# Altium footprint library PcbLib1.PcbLib: 4 footprints
Each footprint in its own frame and in the unit in brackets; x right, y up, seen from the top. Pads: shape width x height; smd on the part's side, far side on the other; paste and mask are expansions set on the pad; w line width, h text height; cw(c..) or ccw(c..) is an arc to the next point about the centre after c.
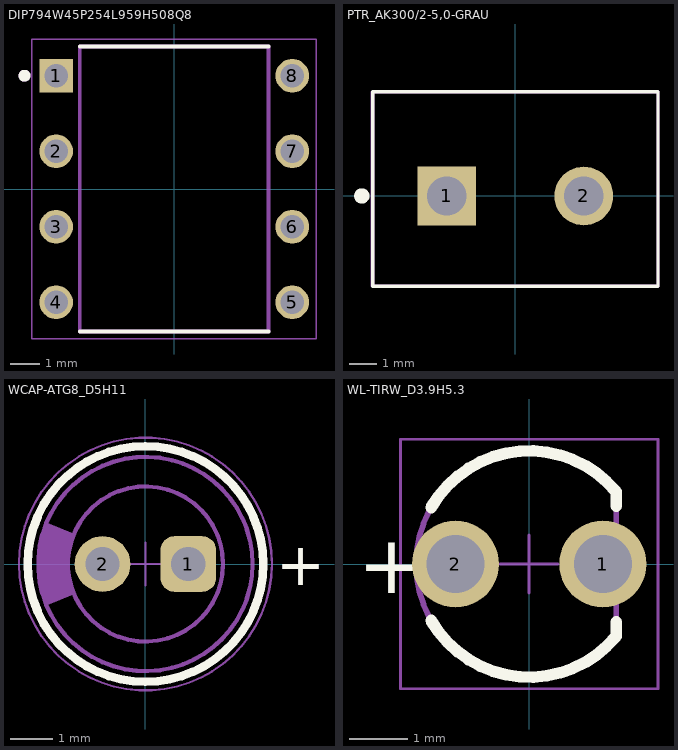
[diagram p0: the footprints below, top view; thin cyan lines are the x and y axes]

## DIP794W45P254L959H508Q8 [mm]
pads (8):
  rect 1.13x1.13 hole 0.78: 1(-3.97,3.81)
  round 1.13 hole 0.78: 2(-3.97,1.27) 3(-3.97,-1.27) 4(-3.97,-3.81) 5(3.97,-3.81) 6(3.97,-1.27) 7(3.97,1.27) 8(3.97,3.81)
Top Overlay:
  circle w0.2: c-5.035,3.81 r0.1
  lines w0.127: -3.175,-4.795 3.175,-4.795 ; -3.175,4.795 3.175,4.795
Mechanical 13:
  circle w0.2: c-5.035,3.81 r0.1
  lines w0.127: -3.175,-4.795 3.175,-4.795 3.175,4.795 -3.175,4.795 -3.175,-4.795
Mechanical 15:
  lines w0.05: -4.785,-5.045 4.785,-5.045 4.785,5.045 -4.785,5.045 -4.785,-5.045
3D body "lm555cn.stp": height 3.8, standoff -3.25, extent -5.282,-4.953 5.282,4.947

## PTR_AK300/2-5,0-GRAU [mm]
pads (2):
  rect 2.145x2.145 hole 1.43: 1(-2.5,0)
  round 2.145 hole 1.43: 2(2.5,0)
Top Overlay:
  circle w0.28: c-5.6,0 r0.14
  lines w0.127: -5.207,-3.302 -5.207,3.81 5.207,3.81 5.207,-3.302 -5.207,-3.302
Mechanical 13:
  lines w0.127: -5.207,-3.302 -5.207,3.81 5.207,3.81 5.207,-3.302 -5.207,-3.302
Mechanical 15:
  lines w0.05: -5.25,-3.302 5.207,-3.302 5.207,3.81 -5.25,3.81 -5.25,-3.302
3D body "ak500 - 2.step": height 2.45, standoff -10.35, extent -5.217,-3.239 5.183,3.761

## WCAP-ATG8_D5H11 [mm] "Aluminum Electrolytic Capacitors, 5x11mm"
height 11
pads (2):
  rrect50% 1.3x1.3 hole 0.8: 1(1,0)
  round 1.3 hole 0.8: 2(-1,0)
Top Overlay:
  circle w0.2: c0,0 r2.75
  text "+" at 3.05,-0.5 h1
Mechanical 11:
  circle w0.1: c0,0 r1.81
  circle w0.1: c0,0 r2.5
  region: -2.305,-0.968 -1.668,-0.702 -1.669,-0.701 -1.73,-0.532 -1.801,-0.18 -1.801,0.18 -1.73,0.532 -1.669,0.701 -1.668,0.702 -2.305,0.968 -2.402,0.738 -2.5,0.249 -2.5,-0.249 -2.402,-0.738
  text ".Designator" at -1.15,-0.475 h1
Mechanical 15:
  circle w0.05: c0,0 r2.95
  lines w0.05: -0.5,0 0.5,0 ; 0,-0.5 0,0.5
3D body "5x11x2x0.5.stp": height 11.31, standoff -19.91, extent -2.49,-2.5 2.5,2.5

## WL-TIRW_D3.9H5.3 [mm] "THT Infrared Round Waterclear, body diameter 3.9mm"
height 5.3
pads (2):
  round 1.5 hole 1: 1(1.27,0) 2(-1.27,0)
Top Overlay:
  lines w0.2: -1.69,-0.973 ccw(c0,0) 1.5,-1.245 1.5,-1 ; -1.69,0.973 cw(c0,0) 1.5,1.245 1.5,1
  text "+" at -2.95,-0.5 h1.02
Mechanical 11:
  lines w0.1: 1.5,-1.245 cw(c0,0) 1.5,1.245 ; 1.5,-1.245 1.5,1.245
  text ".Designator" at -1.15,-0.475 h1
Mechanical 13:
  lines w0.1: 1.5,-1.245 cw(c0,0) 1.5,1.245 ; 1.5,-1.245 1.5,1.245
Mechanical 15:
  lines w0.05: -0.5,0 0.5,0 ; 0,-0.5 0,0.5 ; -2.22,-2.15 2.22,-2.15 2.22,2.15 -2.22,2.15 -2.22,-2.15
3D body "154003xxx.stp": height 5.33, standoff -26.37, extent -1.95,-1.949 1.62,1.95